# Altium schematic symbol library Misc.SchLib: 1 symbol
Pins are listed as number, name and electrical type; pins without a type are passive.

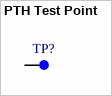
[diagram p0: symbol PTH Test Point]

## PTH Test Point
designator TP?  (value not drawn)
Test Point
footprint TP_PTH (PTH Test Point)
pins: 1